# EAGLE library part MACH231 (library amd-mach)
AMD MACH SERIES
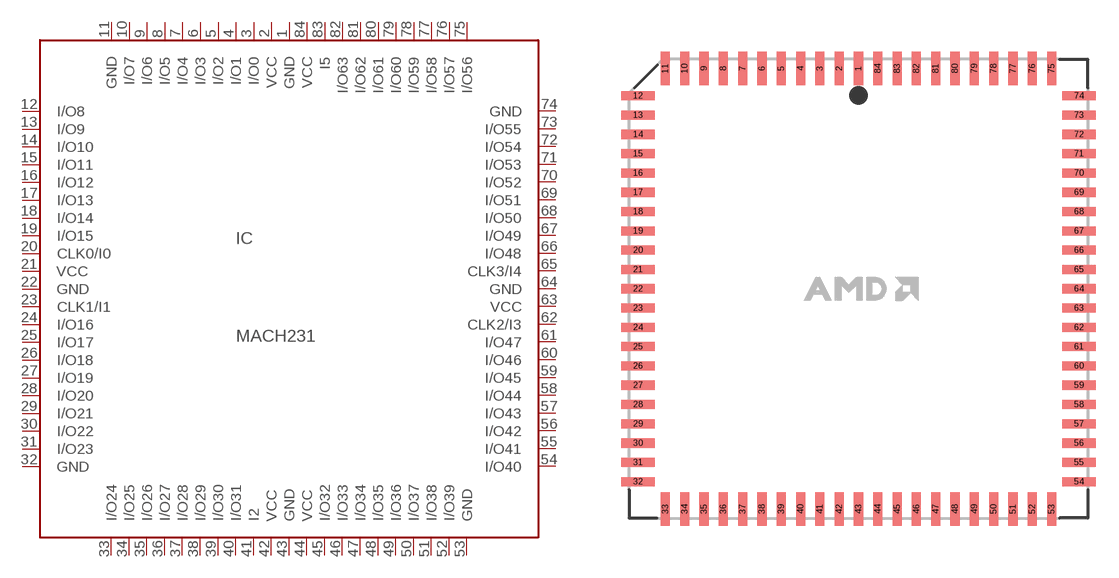
[diagram p28: symbol with the pads of PLCC84; footprint PLCC84]

Designator prefix IC

## MACH231  [PLCC84]
1  GND  pwr
2  VCC  pwr
3  I/O0
4  I/O1
5  I/O2
6  I/O3
7  I/O4
8  I/O5
9  I/O6
10  I/O7
11  GND  pwr
12  I/O8
13  I/O9
14  I/O10
15  I/O11
16  I/O12
17  I/O13
18  I/O14
19  I/O15
20  CLK0/I0  in
21  VCC  pwr
22  GND  pwr
23  CLK1/I1  in
24  I/O16
25  I/O17
26  I/O18
27  I/O19
28  I/O20
29  I/O21
30  I/O22
31  I/O23
32  GND  pwr
33  I/O24
34  I/O25
35  I/O26
36  I/O27
37  I/O28
38  I/O29
39  I/O30
40  I/O31
41  I2  in
42  VCC  pwr
43  GND  pwr
44  VCC  pwr
45  I/O32
46  I/O33
47  I/O34
48  I/O35
49  I/O36
50  I/O37
51  I/O38
52  I/O39
53  GND  pwr
54  I/O40
55  I/O41
56  I/O42
57  I/O43
58  I/O44
59  I/O45
60  I/O46
61  I/O47
62  CLK2/I3  in
63  VCC  pwr
64  GND  pwr
65  CLK3/I4  in
66  I/O48
67  I/O49
68  I/O50
69  I/O51
70  I/O52
71  I/O53
72  I/O54
73  I/O55
74  GND  pwr
75  I/O56
76  I/O57
77  I/O58
78  I/O59
79  I/O60
80  I/O61
81  I/O62
82  I/O63
83  I5  in
84  VCC  pwr

## Footprint PLCC84 (pad centres in mm)
PLASTIC LEADED CHIP CARRIER
smd 0.6 x 2.2: 1 0,14.5; 2 -1.27,14.5; 3 -2.54,14.5; 4 -3.81,14.5; 5 -5.08,14.5; 6 -6.35,14.5; 7 -7.62,14.5; 8 -8.89,14.5; 9 -10.16,14.5; 10 -11.43,14.5; 11 -12.7,14.5; 33 -12.7,-14.5; 34 -11.43,-14.5; 35 -10.16,-14.5; 36 -8.89,-14.5; 37 -7.62,-14.5; 38 -6.35,-14.5; 39 -5.08,-14.5; 40 -3.81,-14.5; 41 -2.54,-14.5; 42 -1.27,-14.5; 43 0,-14.5; 44 1.27,-14.5; 45 2.54,-14.5; 46 3.81,-14.5; 47 5.08,-14.5; 48 6.35,-14.5; 49 7.62,-14.5; 50 8.89,-14.5; 51 10.16,-14.5; 52 11.43,-14.5; 53 12.7,-14.5; 75 12.7,14.5; 76 11.43,14.5; 77 10.16,14.5; 78 8.89,14.5; 79 7.62,14.5; 80 6.35,14.5; 81 5.08,14.5; 82 3.81,14.5; 83 2.54,14.5; 84 1.27,14.5
smd 2.2 x 0.6: 12 -14.5,12.7; 13 -14.5,11.43; 14 -14.5,10.16; 15 -14.5,8.89; 16 -14.5,7.62; 17 -14.5,6.35; 18 -14.5,5.08; 19 -14.5,3.81; 20 -14.5,2.54; 21 -14.5,1.27; 22 -14.5,0; 23 -14.5,-1.27; 24 -14.5,-2.54; 25 -14.5,-3.81; 26 -14.5,-5.08; 27 -14.5,-6.35; 28 -14.5,-7.62; 29 -14.5,-8.89; 30 -14.5,-10.16; 31 -14.5,-11.43; 32 -14.5,-12.7; 54 14.5,-12.7; 55 14.5,-11.43; 56 14.5,-10.16; 57 14.5,-8.89; 58 14.5,-7.62; 59 14.5,-6.35; 60 14.5,-5.08; 61 14.5,-3.81; 62 14.5,-2.54; 63 14.5,-1.27; 64 14.5,0; 65 14.5,1.27; 66 14.5,2.54; 67 14.5,3.81; 68 14.5,5.08; 69 14.5,6.35; 70 14.5,7.62; 71 14.5,8.89; 72 14.5,10.16; 73 14.5,11.43; 74 14.5,12.7